# Altium footprint library 1.贴片电阻、电容、电感封装.PcbLib: 33 footprints (part 2 of 3)
Each footprint in its own frame and in the unit in brackets; x right, y up, seen from the top. Pads: shape width x height; smd on the part's side, far side on the other; paste and mask are expansions set on the pad; w line width, h text height; cw(c..) or ccw(c..) is an arc to the next point about the centre after c.
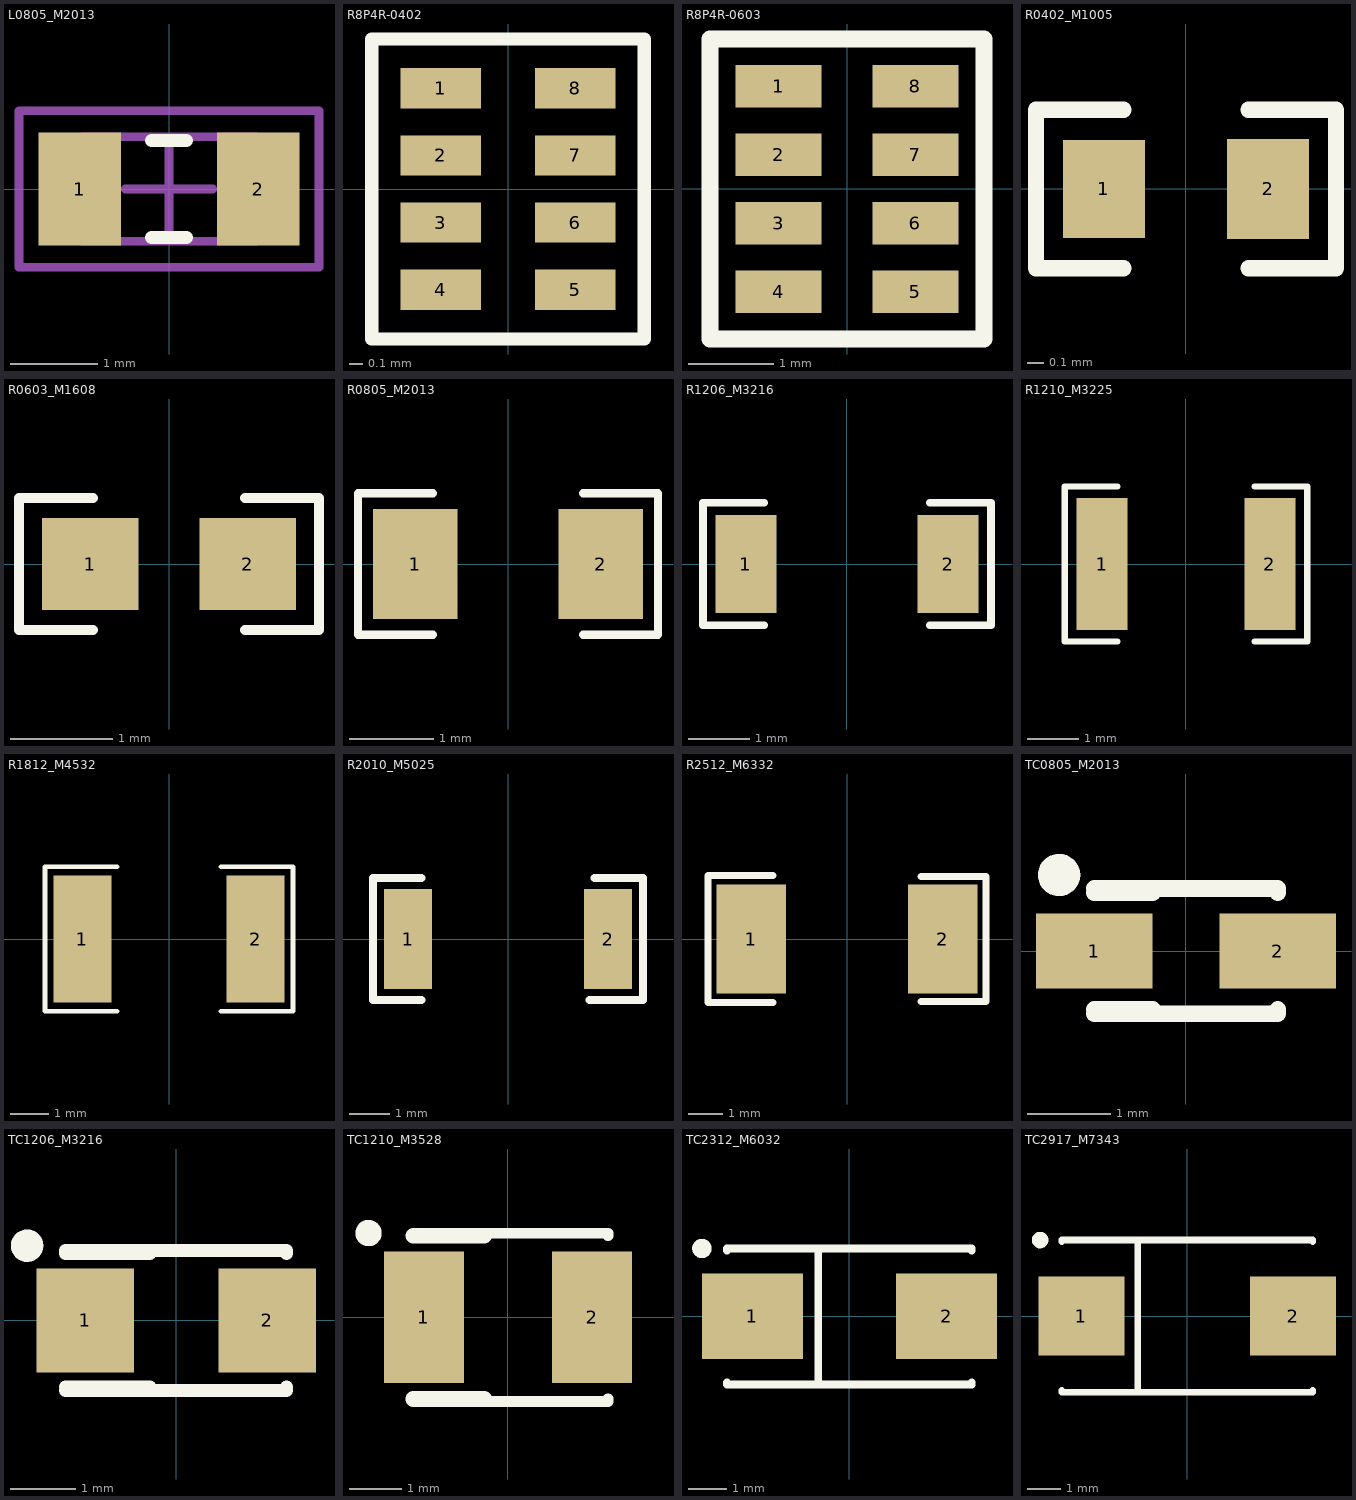
[diagram p1: the footprints below, top view; thin cyan lines are the x and y axes]

## L0805_M2013 [mm] "Chip Inductor, 2-Leads, Body 2.0x1.2mm, IPC Medium Density"
height 1.27
pads (2):
  rect 0.95x1.3 smd: 1(-1.025,0) 2(1.025,0)
Top Overlay:
  lines w0.15: -0.203,-0.559 0.203,-0.559 ; -0.203,0.559 0.203,0.559
Mechanical 13:
  lines w0.1: -1,-0.6 1,-0.6 1,0.6 -1,0.6 -1,-0.6
Mechanical 15:
  lines w0.1: -0.5,0 0.5,0 ; 0,-0.5 0,0.5 ; -1.725,-0.9 1.725,-0.9 1.725,0.9 -1.725,0.9 -1.725,-0.9
3D body: height 1.27, standoff 0, extent -1,-0.6 1,0.6

## R8P4R-0402 [mm]
pads (8):
  rect 0.6x0.3 smd: 1(-0.5,0.75) 2(-0.5,0.25) 3(-0.5,-0.25) 4(-0.5,-0.75) 5(0.5,-0.75) 6(0.5,-0.25) 7(0.5,0.25) 8(0.5,0.75)
Top Overlay:
  lines w0.1: -1.016,-1.118 -1.016,1.118 1.016,1.118 1.016,-1.118 -1.016,-1.118

## R8P4R-0603 [mm]
pads (8):
  rect 1x0.5 smd: 1(-0.8,1.2) 2(-0.8,0.4) 3(-0.8,-0.4) 4(-0.8,-1.2) 5(0.8,-1.2) 6(0.8,-0.4) 7(0.8,0.4) 8(0.8,1.2)
Top Overlay:
  lines w0.2: -1.6,-1.753 1.6,-1.753 1.6,1.753 -1.6,1.753 -1.6,-1.753

## R0402_M1005 [mm]
pads (2):
  rect 0.5x0.6 smd: 1(-0.5,0)
  rect 0.5x0.61 smd: 2(0.5,0)
Top Overlay:
  lines w0.1: -0.381,-0.483 -0.914,-0.483 -0.914,0.483 -0.381,0.483 ; 0.381,-0.483 0.914,-0.483 0.914,0.483 0.381,0.483

## R0603_M1608 [mm]
height 0.55
pads (2):
  rect 0.95x0.9 smd: 1(-0.775,0) 2(0.775,0)
Top Overlay:
  lines w0.1: -0.75,-0.65 -1.475,-0.65 -1.475,0.65 -0.75,0.65 ; 0.75,-0.65 1.475,-0.65 1.475,0.65 0.75,0.65

## R0805_M2013 [mm]
pads (2):
  rect 1x1.3 smd: 1(-1.1,0) 2(1.1,0)
Top Overlay:
  lines w0.1: -0.889,-0.838 -1.778,-0.838 -1.778,0.838 -0.889,0.838 ; 0.889,-0.838 1.778,-0.838 1.778,0.838 0.889,0.838

## R1206_M3216 [mm]
pads (2):
  rect 1x1.6 smd: 1(-1.65,0) 2(1.65,0)
Top Overlay:
  lines w0.127: -1.35,-1 -2.35,-1 -2.35,1 -1.35,1 ; 1.35,-1 2.35,-1 2.35,1 1.35,1

## R1210_M3225 [mm]
pads (2):
  rect 1x2.6 smd: 1(-1.65,0) 2(1.65,0)
Top Overlay:
  lines w0.127: -1.35,-1.524 -2.388,-1.524 -2.388,1.524 -1.35,1.524 ; 1.35,-1.524 2.388,-1.524 2.388,1.524 1.35,1.524

## R1812_M4532 [mm]
pads (2):
  rect 1.5x3.3 smd: 1(-2.25,0) 2(2.25,0)
Top Overlay:
  lines w0.127: -1.35,-1.88 -3.226,-1.88 -3.226,1.88 -1.35,1.88 ; 1.35,-1.88 3.226,-1.88 3.226,1.88 1.35,1.88

## R2010_M5025 [mm]
pads (2):
  rect 1.2x2.5 smd: 1(-2.5,0) 2(2.5,0)
Top Overlay:
  lines w0.2: -2.159,-1.524 -3.378,-1.524 -3.378,1.524 -2.159,1.524 ; 2.032,-1.524 3.378,-1.524 3.378,1.524 2.159,1.524

## R2512_M6332 [mil]
pads (2):
  rect 80x125 smd: 1(-110,0) 2(110,0)
Top Overlay:
  lines w8: -85,-72.83 -160,-72.83 -160,72.83 -85,72.83 ; 85,-71.85 160,-71.85 160,71.85 85,71.85

## TC0805_M2013 [mm]
pads (2):
  rect 1.4x0.9 smd: 1(-1.1,0) 2(1.1,0)
Top Overlay:
  circle w0.254: c-1.523,0.913 r0.127
  lines w0.2: -1.1,-0.75 1.1,-0.75 1.1,-0.7 ; -1.1,-0.7 -0.4,-0.7 ; -1.1,0.7 -0.4,0.7 ; -1.1,0.75 1.1,0.75 1.1,0.7

## TC1206_M3216 [mm]
pads (2):
  rect 1.5x1.6 smd: 1(-1.4,0) 2(1.4,0)
Top Overlay:
  circle w0.25: c-2.294,1.152 r0.125
  lines w0.2: -1.7,-1.078 1.7,-1.078 1.7,-1.028 ; -1.7,-1.028 -0.4,-1.028 ; -1.7,1.028 -0.4,1.028 ; -1.7,1.078 1.7,1.078 1.7,1.028

## TC1210_M3528 [mm]
pads (2):
  rect 1.52x2.5 smd: 1(-1.6,0) 2(1.6,0)
Top Overlay:
  circle w0.25: c-2.65,1.6 r0.125
  lines w0.2: -1.8,-1.6 1.9,-1.6 1.9,-1.55 ; -1.8,1.6 1.9,1.6 1.9,1.55
  lines w0.3: -1.8,-1.55 -0.45,-1.55 ; -1.8,1.55 -0.45,1.55

## TC2312_M6032 [mm]
pads (2):
  rect 2.6x2.2 smd: 1(-2.5,0) 2(2.5,0)
Top Overlay:
  circle w0.25: c-3.8,1.75 r0.125
  lines w0.2: -3.15,-1.7 -3.15,-1.75 3.15,-1.75 3.15,-1.7 ; -3.15,1.7 -3.15,1.75 3.15,1.75 3.15,1.7 ; -0.8,-1.75 -0.8,1.75

## TC2917_M7343 [mm]
pads (2):
  rect 2.6x2.4 smd: 1(-3.2,0) 2(3.2,0)
Top Overlay:
  circle w0.25: c-4.45,2.3 r0.125
  lines w0.2: -3.8,-2.25 -3.8,-2.3 3.8,-2.3 3.8,-2.25 ; -3.8,2.25 -3.8,2.3 3.8,2.3 3.8,2.25 ; -1.5,-2.3 -1.5,2.3